# Altium schematic symbol library HDR_1X17_BB_18.SchLib: 1 symbol
Pins are listed as number, name and electrical type; pins without a type are passive.

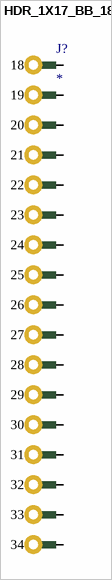
[diagram p0: symbol HDR_1X17_BB_18]

## HDR_1X17_BB_18
designator J?
pins: 18, 19, 20, 21, 22, 23, 24, 25, 26, 27, 28, 29, 30, 31, 32, 33, 34